# EAGLE library part SAMACSYS_PARTS_EMC2301-1-ACZL-TR (library ExportCompute Module)
RPM-Based PWM Fan Speed Controller MSOP8 Source: Datasheet <http://www.microchip.com/mymicrochip/filehandler.aspx?ddocname=en562400>
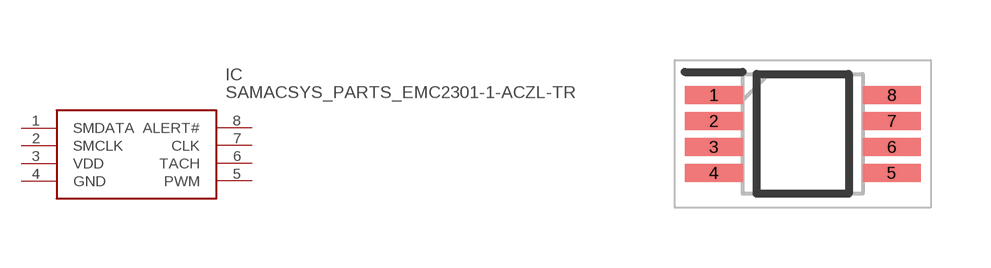
[diagram p14: symbol with the pads of SAMACSYS_PARTS_SOP65P490X110-8N; footprint SAMACSYS_PARTS_SOP65P490X110-8N]

Designator prefix IC

## SAMACSYS_PARTS_EMC2301-1-ACZL-TR (DIGIKEY: EMC2301-1-ACZL-CT-ND; MANUFACTURER: Microchip; MPN: EMC2301-1-ACZL-TR)  [SAMACSYS_PARTS_SOP65P490X110-8N]
1  SMDATA
2  SMCLK
3  VDD
4  GND
5  PWM
6  TACH
7  CLK
8  ALERT#

## Footprint SAMACSYS_PARTS_SOP65P490X110-8N (pad centres in mm)
EMC2301-1-ACZL-TR-1
smd 1.45 x 0.45: 1 -2.225,0.975; 2 -2.225,0.325; 3 -2.225,-0.325; 4 -2.225,-0.975; 5 2.225,-0.975; 6 2.225,-0.325; 7 2.225,0.325; 8 2.225,0.975